# EAGLE library part PSC-2-1 (library minicircuits)
Power Splitter / Combiner 2 Way-0° Source: minicircuits.com .. PSC-2-1.pdf
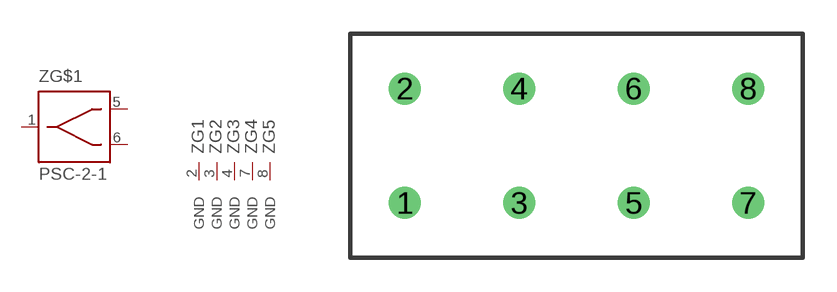
[diagram p2: symbol with the pads of A01; footprint A01]

Designator prefix Z; gates G$1=POWER-SPLITTER G1=GROUND G2=GROUND G3=GROUND G4=GROUND G5=GROUND

## PSC-2-1 (OC_FARNELL: unknown; OC_NEWARK: unknown)  [A01]
1  G$1:IN  in
2  G1:GND  pwr
3  G2:GND  pwr
4  G3:GND  pwr
5  G$1:OUT1  in
6  G$1:OUT2  in
7  G4:GND  pwr
8  G5:GND  pwr

## Footprint A01 (pad centres in mm)
CASE STYLE A01 Source: minicircuits.com .. PBP-10.7+.pdf
drill 0.9 pad 1.422: 1 -7.62,-2.54; 2 -7.62,2.54; 3 -2.54,-2.54; 4 -2.54,2.54; 5 2.54,-2.54; 6 2.54,2.54; 7 7.62,-2.54; 8 7.62,2.54